# Altium schematic symbol library U_78Lxx_3pin_321.SchLib: 1 symbol
Pins are listed as number, name and electrical type; pins without a type are passive.

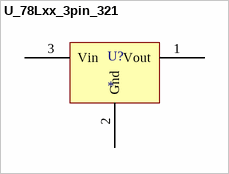
[diagram p0: symbol U_78Lxx_3pin_321]

## U_78Lxx_3pin_321
designator U?
pins: 1 Vout, 2 Gnd, 3 Vin